# Altium schematic symbol library BB.001.00.00.SchLib: 36 symbols
Pins are listed as number, name and electrical type; pins without a type are passive.

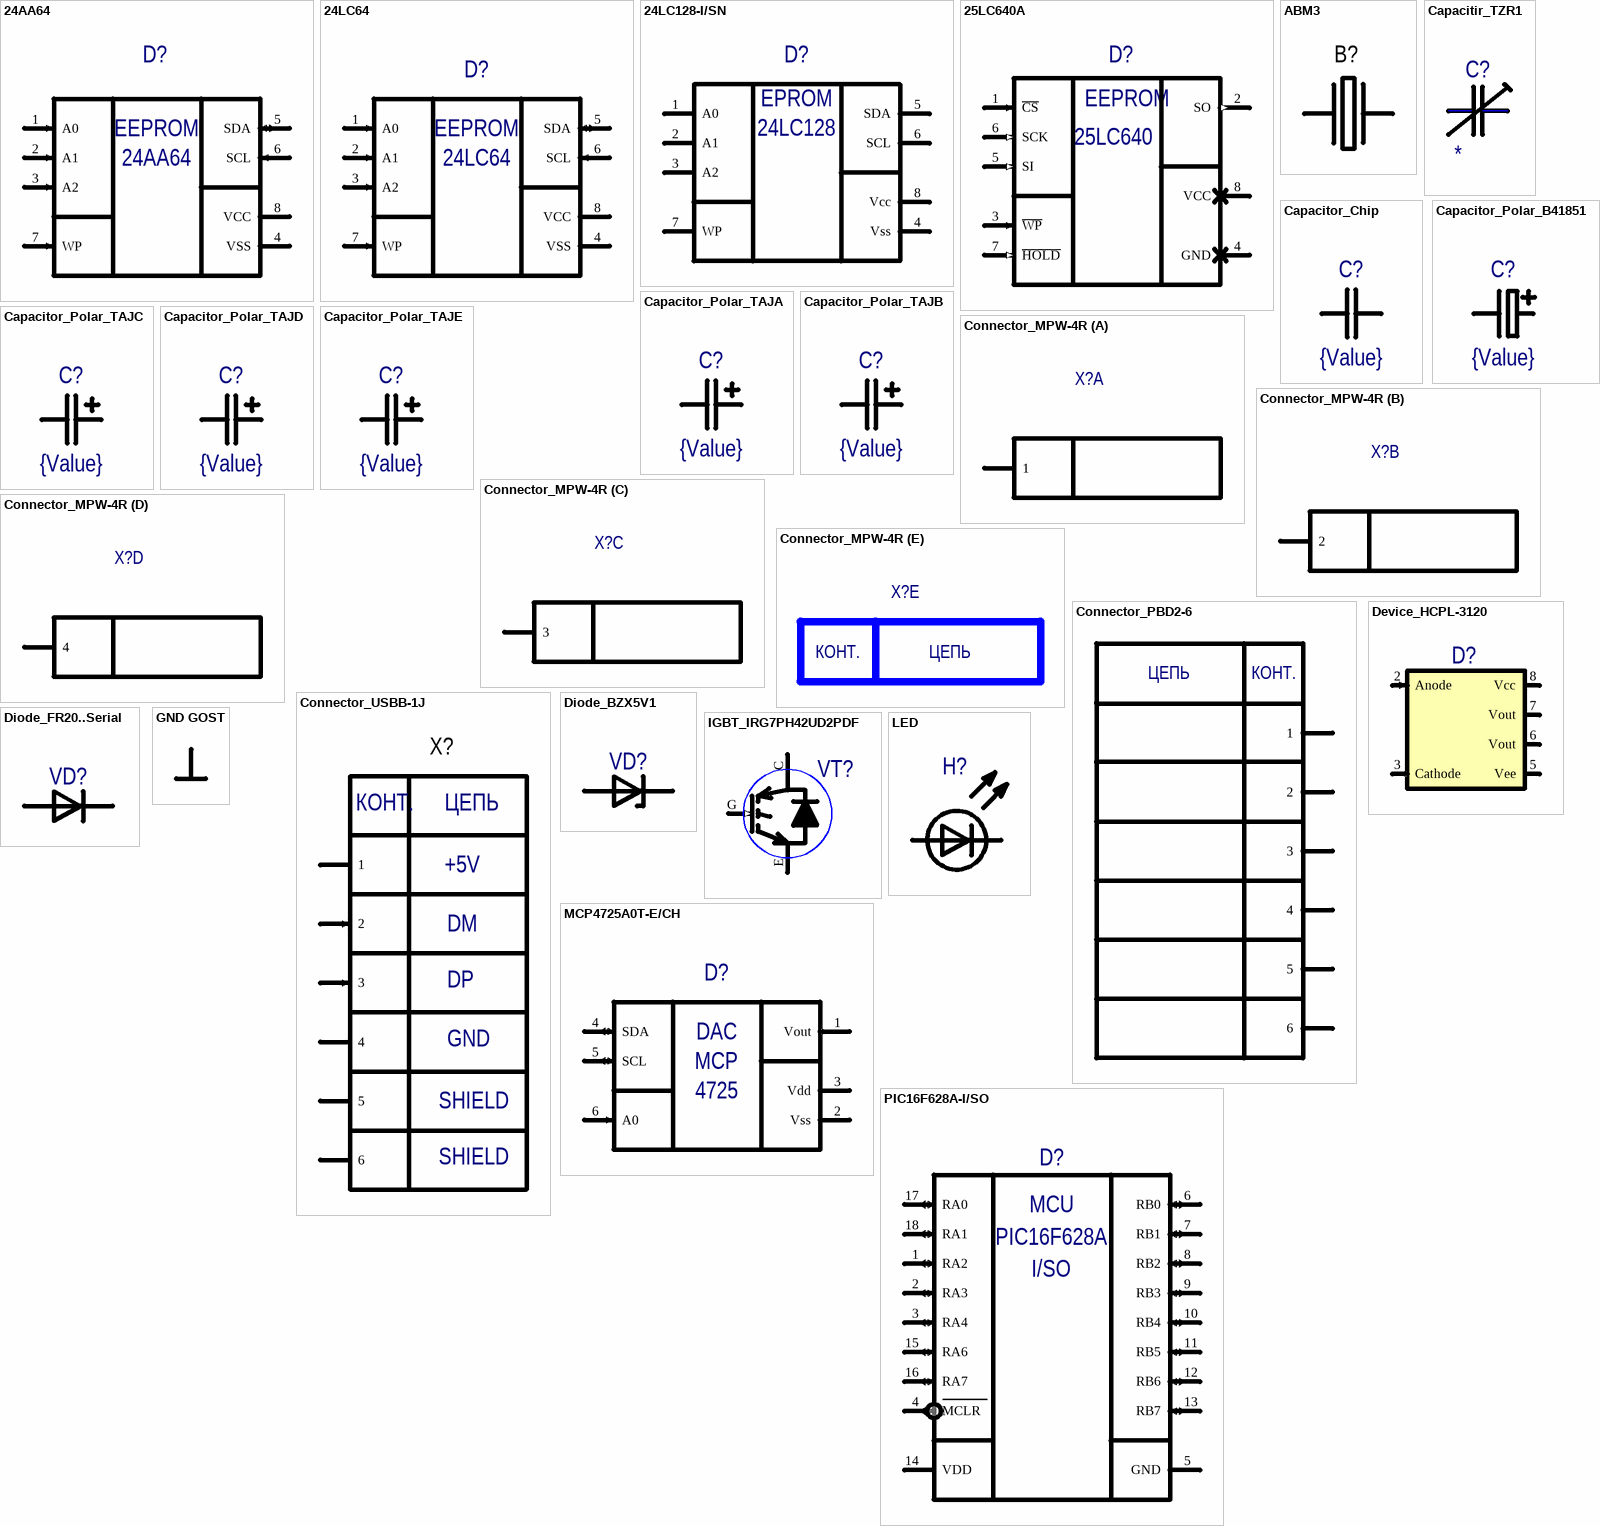
[diagram p0: symbols 24AA64 to PIC16F628A-I/SO]

## 24AA64
designator D?, comment 24AA64-I/SN  (value not drawn)
64K I2C™ Serial EEPROM; Manufacturer: Microchip; Type: Микросхема; BCPId: *; ManufacturerPartNumber: 24AA64-I/SN; TU/GOST: *; Rem: *; Package: SN
footprint SOIC127P600-8M (SOIC, 8-Leads, Body 4.9x3.9mm, Pitch 1.27mm, IPC Low Density)
pins: 1 A0 (in) "Chip address input", 2 A1 (in) "Chip address input", 3 A2 (in) "Chip address input", 4 VSS (power) "Ground", 5 SDA (io) "Serial Address/Data I/O", 6 SCL (in) "Serial Clock", 7 WP (in) "Write protection pin", 8 VCC "+2.5-5.5V power pin"
text: EEPROM

## 24LC64
designator D?, comment 24LC64-I/SN  (value not drawn)
64 I2C serial EEPROM; Manufacturer: Microchip; Type: Микросхема; BCPId: *; Name: *; Package: SN; ManufacturerPartNumber: 24LC64-I/SN
footprint SOIC127P600-8M (SOIC, 8-Leads, Body 4.9x3.9mm, Pitch 1.27mm, IPC Low Density)
pins: 1 A0 (in) "Chip address input", 2 A1 (in) "Chip address input", 3 A2 (in) "Chip address input", 4 VSS (power) "Ground", 5 SDA (io) "Serial Address/Data I/O", 6 SCL (in) "Serial Clock", 7 WP (in) "Write protection pin", 8 VCC "+2.5-5.5V power pin"
text: EEPROM

## 24LC128-I/SN
designator D?  (value not drawn)
EEPROM память с последовательным интерфейсом; Manufacturer: Microchip; Type: Микросхема; SymAuthor: Семенов В.С.; BCPId: *; ManufacturerPartNumber: 24LC128-I/SN; Package: 8-Lead SOIC
footprint SOIC127P600-8M (SOIC, 8-Leads, Body 4.9x3.9mm, Pitch 1.27mm, IPC Low Density)
pins: 1 A0 "0 бит адреса микросхемы", 2 A1 "1 бит адреса микросхемы", 3 A2 "2 бит адреса микросхемы", 4 Vss "Земля", 5 SDA "Serial Data", 6 SCL "Serial Clock", 7 WP "Защита от записи", 8 Vсс
text: EPROM; 24LC128

## 25LC640A
designator D?, comment 25LC640AT-I/SN  (value not drawn)
EEPROM 64Kbit; Manufacturer*: Microchip Technology; Type: Микросхема; BCPId: *; ManufacturerPartNumber: 25LC640AT-I/SN; Package: 8 pin SOIC
footprint SOIC127P600-8M (SOIC, 8-Leads, Body 4.9x3.9mm, Pitch 1.27mm, IPC Low Density)
pins: 1 ~{CS} (in), 2 SO (out), 3 ~{WP} (in), 4 GND (power), 5 SI (in), 6 SCK (in), 7 ~{HOLD} (in), 8 VCC (power)
text: EEPROM; 25LC640

## ABM3
designator B?, comment ABM3-25 МHz-D2Y  (value not drawn)
Резонатор кварцевый; Manufacturer*: Abracon; Value: 25МГц; BCPId: *; Type: Резонатор кварцевый; ManufacturerPartNumber: ABM3-25 МHz-D2Y
footprint OSC_ABM3 (MINIATURE CERAMIC SMD CRYSTAL 3.2x5x1.3)
pins: 1, 2

## Capacitir_TZR1
designator C?
Ceramic Trimmer Capacitor; Manufacturer: MURATA; ManufacturerPartNumber: TZR1*; Power/Voltage: 25 В; Type: Конденсатор; BCPId: *; TKE/TKC: *; Tolerance: *; Value: *; TU/GOST: *
footprint CAPM1715X09N (Molded Capacitor, 2-Leads, Body 1,70x1,50mm, IPC Medium Density)
pins: 1, 2

## Capacitor_Chip
designator C?, comment {Value}
Чип-конденсатор; Name: 1206; Power/Voltage: {Voltage}; TKE/TKC: {TKE/TKC}; Tolerance: {Tolerance}; BCPId: *; Manufacturer: *; ManufacturerPartNumber: *; Type: Конденсатор; Value: {Value}
footprint CAPC0303X03N (Chip Capacitor, 2-Leads, Body 0,35x0,35mm, IPC Medium Density)
footprint CAPC1005L (Chip Capacitor, Body 1.0x0.5mm, IPC High Density)
footprint CAPC1005M (Chip Capacitor, Body 1.0x0.5mm, IPC Low Density)
footprint CAPC1005N (Chip Capacitor, Body 1.0x0.5mm, IPC Medium Density)
footprint CAPC1305X06L (Chip Capacitor, 2-Leads, Body 1,30x0,51mm, IPC High Density)
footprint CAPC1306N (Chip Capacitor, 2-Leads, Body 1,27x0,64mm, IPC Medium Density)
footprint CAPC1608L (Chip Capacitor, Body 1.6x0.8mm, IPC High Density)
footprint CAPC1608M (Chip Capacitor, Body 1.6x0.8mm, IPC Low Density)
footprint CAPC1608N (Chip Capacitor, Body 1.6x0.8mm, IPC Medium Density)
footprint CAPC1632X115L (Chip Capacitor, 2-Leads, Body 1,6x3,2mm, IPC High Density)
footprint CAPC1632X115M (Chip Capacitor, 2-Leads, Body 1,6x3,2mm, IPC Low Density)
footprint CAPC1632X115N (Chip Capacitor, 2-Leads, Body 1,6x3,2mm, IPC Medium Density)
footprint CAPC2012L (Chip Capacitor, Body 2.0x1.3mm, IPC High Density)
footprint CAPC2012M (Chip Capacitor, Body 2.0x1.3mm, IPC Low Density)
footprint CAPC2012N (Chip Capacitor, Body 2.0x1.3mm, IPC Medium Density)
footprint CAPC3216L (Chip Capacitor, Body 3.2x1.6mm, IPC High Density)
footprint CAPC3216M (Chip Capacitor, Body 3.2x1.6mm, IPC Low Density)
footprint CAPC3216N (Chip Capacitor, Body 3.2x1.6mm, IPC Medium Density)
footprint CAPC3225L (Chip Capacitor, Body 3.2x2.5mm, IPC High Density)
footprint CAPC3225M (Chip Capacitor, Body 3.2x2.5mm, IPC Low Density)
footprint CAPC3225N (Chip Capacitor, Body 3.2x2.5mm, IPC Medium Density)
footprint CAPC3225X20N (Chip Capacitor, 2-Leads, Body 3,20x2,50mm, IPC Medium Density)
footprint CAPC4532L (Chip Capacitor, Body 4.5x3.2mm, IPC High Density)
footprint CAPC4532M (Chip Capacitor, Body 4.5x3.2mm, IPC Low Density)
footprint CAPC4532N (Chip Capacitor, Body 4.5x3.2mm, IPC Medium Density)
footprint CAPC5750X19N (Chip Capacitor, 2-Leads, Body 5,70x5,00mm, IPC Medium Density)
footprint CAPC5750X25N (Chip Capacitor, 2-Leads, Body 5,70x5,00mm, IPC Medium Density)
pins: 1, 2

## Capacitor_Polar_B41851
designator C?, comment {Value}
Конденсатор радиальный,; Manufacturer: Epсos; Name: B41851; Power/Voltage: {Voltage}; Tolerance: {Tolerance}; BCPId: *; TKE/TKC: *; ManufacturerPartNumber: *; Type: Конденсатор; Value: {Value}
footprint TC3216-1206 (Capacitor, SM Tantalum; Body 3.2 x 1.6 mm (LxW typ))
pins: 1, 2

## Capacitor_Polar_TAJA
designator C?, comment {Value}
Танталовый конденсатор; Name: TAJA; Power/Voltage: {Voltage}; Tolerance: {Tolerance}; BCPId: *; Manufacturer: *; TKE/TKC: *; ManufacturerPartNumber: *; Type: Конденсатор; Value: {Value}
footprint TC3216-1206 (Capacitor, SM Tantalum; Body 3.2 x 1.6 mm (LxW typ))
pins: 1, 2

## Capacitor_Polar_TAJB
designator C?, comment {Value}
Танталовый конденсатор; Name: TAJB; Power/Voltage: {Voltage}; Tolerance: {Tolerance}; BCPId: *; Manufacturer: *; TKE/TKC: *; ManufacturerPartNumber: *; Type: Конденсатор; Value: {Value}
footprint TC3528-1411 (Capacitor, SM Tantalum; Body 3.5 x 2.8 mm (LxW typ))
pins: 1, 2

## Capacitor_Polar_TAJC
designator C?, comment {Value}
Танталовый конденсатор; Name: TAJC; Power/Voltage: {Voltage}; Tolerance: {Tolerance}; BCPId: *; Manufacturer: *; TKE/TKC: *; ManufacturerPartNumber: *; Type: Конденсатор; Value: {Value}
footprint TC6032-2412 (Capacitor, SM Tantalum; Body 6.0 x 3.2 mm (LxW typ))
pins: 1, 2

## Capacitor_Polar_TAJD
designator C?, comment {Value}
Танталовый конденсатор; Name: TAJD; Power/Voltage: {Voltage}; Tolerance: {Tolerance}; BCPId: *; Manufacturer: *; TKE/TKC: *; ManufacturerPartNumber: *; Type: Конденсатор; Value: {Value}
footprint CAPMP7343X31N (Molded Capacitor, 2-Leads, Body 7,30x4,30mm, IPC Medium Density)
pins: 1, 2

## Capacitor_Polar_TAJE
designator C?, comment {Value}
Танталовый конденсатор; Name: TAJE; Power/Voltage: {Voltage}; Tolerance: {Tolerance}; BCPId: *; Manufacturer: *; TKE/TKC: *; ManufacturerPartNumber: *; Type: Конденсатор; Value: {Value}
footprint TC7343-2917 (Capacitor, SM Tantalum; Body 7.3 x 4.3 mm (LxW typ))
pins: 1, 2

## Connector_MPW-4R
designator X?, comment MPW-4R  (value not drawn)
Value: *
footprint CONH MPW-4R
part A pins: 1
part B pins: 2
part C pins: 3
part D pins: 4
part E text: КОНТ.; ЦЕПЬ

## Connector_PBD2-6
designator X?  (value not drawn)
Гнездо на плату шаг 2.00мм., двухрядные; Manufacturer: Бурый медведь; ManufacturerPartNumber: PBD2-6; BCPId: *; Type: Розетка
footprint PBD2-6 (Гнезда на плату,  шаг 2.00мм., двухрядные,  прямые контакты)
pins: 1, 2, 3, 4, 5, 6
text: ЦЕПЬ; КОНТ.

## Connector_USBB-1J
designator X?, comment USBB-1J  (value not drawn)
Разъем USBB на плату; Manufacturer*: NXU; BCPId: *; Type: Розетка; ManufacturerPartNumber: USBB-1J
footprint USBB-1J (USB B type R\A dip type)
pins: 1 (power), 2 (in), 3 (in), 4 (power), 5 (power), 6 (power)
text: КОНТ.; ЦЕПЬ; +5V; DM; DP; GND; SHIELD

## Device_HCPL-3120
designator D?, comment МикросхемаHCPL-3120  (value not drawn)
2.5 Amp Output Current IGBT Gate Drive Optocoupler; Manufacturer: Avago, Avago Technologies; Rule: PcbType=ProtelPcb; ManufacturerPartNumber: HCPL-3120; BCPId: *; ComponentLink2Description: Package; Category: Микросхема; ComponentLink1URL: k:\Projects\BB.001.00.00 (Преобразователь частотный)\Datashets\Функциональная группа ''A1''\hcpl-3120-500e.pdf; ComponentLink1Description: DataSheet; ComponentLink2URL: k:\Projects\BB.001.00.00 (Преобразователь частотный)\Datashets\Функциональная группа ''A1''\hcpl-3120-500e.pdf#page=3
footprint DIP-8
pins: 2 Anode (in), 3 Cathode (out), 5 Vee (power), 6 Vout (power) "Vo", 7 Vout (power), 8 Vcc (power)

## Diode_BZX5V1
designator VD?, comment BZX5V1  (value not drawn)
Диод; Manufacturer: WTE power Semiconductor; BCPId: *; Rem: *; Package: *; ManufacturerPartNumber: BZX5V1; Type: Диод; TU/GOST: *; HelpURL: *; Price: *
footprint DO-35
pins: 1 Anode, 2 Cathode

## Diode_FR20..Serial
designator VD?, comment FR20  (value not drawn)
Диод; Manufacturer: WTE power Semiconductor; BCPId: *; Rem: *; Package: *; ManufacturerPartNumber: FR20; Type: Диод; TU/GOST: *; HelpURL: *; Price: *
footprint DO-15
pins: 1 Anode, 2 Cathode

## EMBLEM
designator *  (value not drawn)  (mechanical)
Эмблема предприятия
footprint EMBLEM

## GND GOST
designator GND  (value not drawn)  (graphical)
Корпус ЕСКД. Для "наложения" на штатный GOST Power Bar

## IGBT_IRG7PH42UD2PDF
designator VT?  (value not drawn)
insulated gate bipolar transistor with  ultrafast soft recovery diode; ManufacturerPartNumber: IRG7PH42UD2PDF; BCPId: *; Manufacturer: *; Package: TO-247AC
footprint TO-247AC
pins: C (oc) "Collector", E (oe) "Emitter", G (in) "Gate"

## LED
designator H?, comment KPG-1608ZGC  (value not drawn)
Светодиод; Manufacturer: Kingbright; BCPId: *; Rem: *; Package: *; ManufacturerPartNumber: KPG-1608ZGC; Type: Светодиод; TU/GOST: *; HelpURL: *; Price: *
footprint LED_1608X25N (Chip LED lamp, 2-Leads, Body 1,60x0,80mm, IPC Medium Density)
pins: 1 Anode, 2 Cathode

## MCP4725A0T-E/CH
designator D?  (value not drawn)
12-Bit DAC with EEPROM; Manufacturer: Microchip; Type: Микросхема; BCPId: *; Name: *; Package: SOT-23-6; ManufacturerPartNumber: MCP4725A0T-E/CH
footprint SOT95P270X145-6N (SOT23, 6-Leads, Body 2,90x2,70mm, Pitch 0,95mm, IPC Medium Density)
pins: 1 Vout (out) "Analog Output Voltage from DAC", 2 Vss (power) "Ground", 3 Vdd (power) "Power Supply Input from 2.7 V to 5.5 V", 4 SDA (io) "Serial Data Pin", 5 SCL (io) "Serial Clock Pin", 6 A0 (in) "Device Address Selection Pin"
text: DAC; MCP; 4725

## PIC16F628A-I/SO
designator D?  (value not drawn)
Flash based 8-bit CMOS Microcontroller; Manufacturer: Microchip Technology; Type: Микросхема; SymAuthor: Календарова В.; BCPId: *; Name: *; Package: SO-18; ManufacturerPartNumber: PIC16F628A-I/SO
footprint SOIC127P1030X265-18N (SOIC, 18-Leads, Body 11,55x7,50mm, Pitch 1,27mm, IPC Medium Density)
pins: 1 RA2 (io) "Bidirectional I/O port", 2 RA3 (io) "Bidirectional I/O port", 3 RA4 (io) "Bidirectional I/O port", 4 MCLR (io) "Master clean", 5 GND (power) "Ground", 6 RB0 (io) "Bidirectional I/O port", 7 RB1 (io) "Bidirectional I/O port", 8 RB2 (io) "Bidirectional I/O port", 9 RB3 (io) "Bidirectional I/O port", 10 RB4 (io) "Bidirectional I/O port", 11 RB5 (io) "Bidirectional I/O port", 12 RB6 (io) "Bidirectional I/O port", 13 RB7 (io) "Bidirectional I/O port", 14 VDD (power), 15 RA6 (io) "Bidirectional I/O port", 16 RA7 (io) "Bidirectional I/O port", 17 RA0 (io) "Bidirectional I/O port", 18 RA1 (io) "Bidirectional I/O port"
text: MCU; PIC16F628A; I/SO

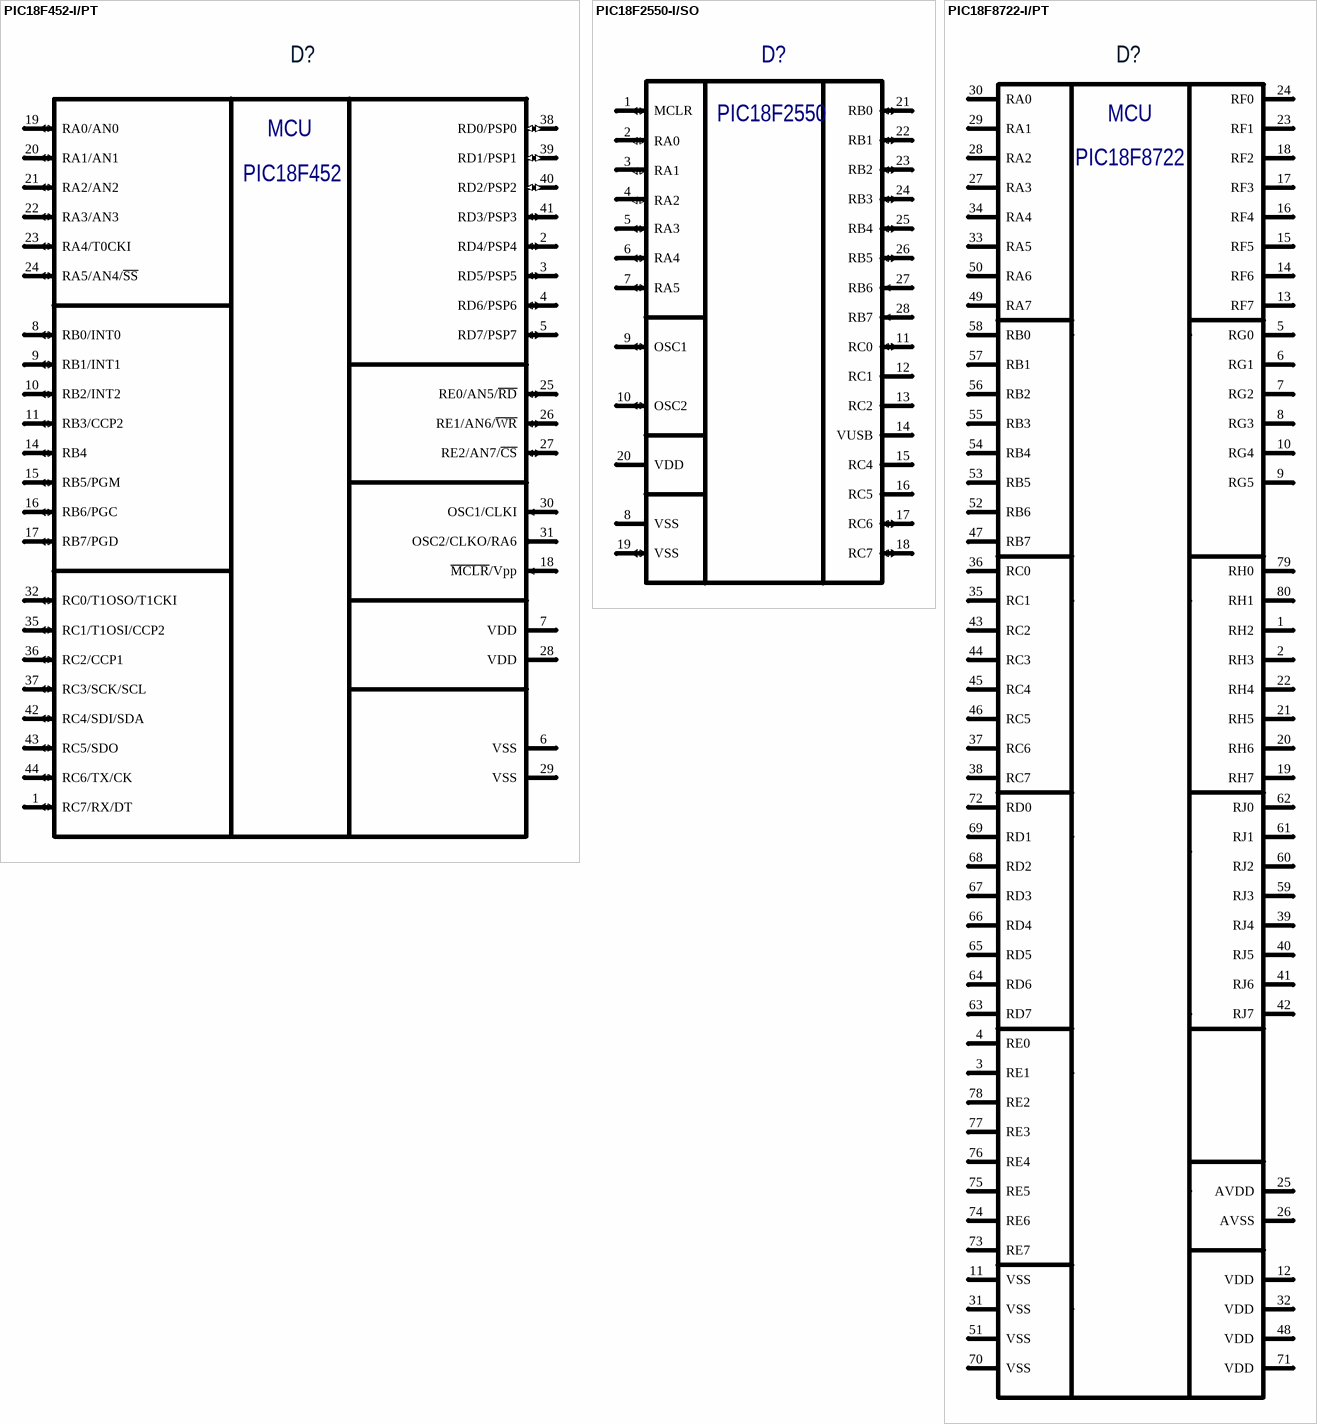
[diagram p1: symbols PIC18F452-I/PT to PIC18F8722-I/PT]

## PIC18F452-I/PT
designator D?  (value not drawn)
High-Performance, Enhanced Flash  Microcontrollers with 10-Bit A/D; Manufacturer: Microchip; Type: Микросхема; Name: *; BCPId: *; Package: TQFP; ManufacturerPartNumber: PIC18F452-I/PT
footprint TQFP80P1200X1200X120-44N (TQFP, 44-Leads, Body 10,00x10,00mm, Pitch 0,80mm, IPC Medium Density)
pins: 1 RC7/RX/DT (io), 2 RD4/PSP4 (io), 3 RD5/PSP5 (io), 4 RD6/PSP6 (io), 5 RD7/PSP7 (io), 6 VSS (power) "GND", 7 VDD (power), 8 RB0/INT0 (io), 9 RB1/INT1 (io), 10 RB2/INT2 (io), 11 RB3/CCP2 (io), 12 NC hidden, 13 NC hidden, 14 RB4 (io), 15 RB5/PGM (io), 16 RB6/PGC (io), 17 RB7/PGD (io), 18 ~{MCLR}/Vpp (in) "MCLR/Vpp", 19 RA0/AN0 (io), 20 RA1/AN1 (io), 21 RA2/AN2 (io), 22 RA3/AN3 (io), 23 RA4/T0CKI (io), 24 RA5/AN4/~{SS} (io) "RA5/AN4/SS", 25 RE0/AN5/~{RD} (io) "RE0/AN5/RD", 26 RE1/AN6/~{WR} (io) "RE1/AN6/WR", 27 RE2/AN7/~{CS} (io) "RE2/AN7/CS", 28 VDD (power), 29 VSS (power) "GND", 30 OSC1/CLKI (in), 31 OSC2/CLKO/RA6 (out), 32 RC0/T1OSO/T1CKI (io), 33 NC hidden, 34 NC hidden, 35 RC1/T1OSI/CCP2 (io), 36 RC2/CCP1 (io), 37 RC3/SCK/SCL (io), 38 RD0/PSP0 (io), 39 RD1/PSP1 (io), 40 RD2/PSP2 (io), 41 RD3/PSP3 (io), 42 RC4/SDI/SDA (io), 43 RC5/SDO (io), 44 RC6/TX/CK (io)
text: MCU; PIC18F452

## PIC18F2550-I/SO
designator D?  (value not drawn)
USB Microcontrollers with nanoWatt Technology; Manufacturer*: Microchip; Type: микросхема; BCPId: *; ManufacturerPartNumber: PIC18F2550-I/SO
footprint SOIC127P1030X264-28N (SOIC, 28-Leads, Body 17,86x7,46mm, Pitch 1,27mm, IPC Medium Density)
pins: 1 MCLR (io), 2 RA0 (io), 3 RA1 (io), 4 RA2 (io), 5 RA3 (io), 6 RA4 (io), 7 RA5 (io), 8 VSS (power), 9 OSC1 (io), 10 OSC2 (io), 11 RC0 (io), 12 RC1 (power), 13 RC2 (power), 14 VUSB (power), 15 RC4, 16 RC5 (power), 17 RC6 (io), 18 RC7 (io), 19 VSS (io), 20 VDD (power), 21 RB0 (io), 22 RB1 (io), 23 RB2 (io), 24 RB3 (io), 25 RB4 (io), 26 RB5 (io), 27 RB6 (in), 28 RB7 (in)
text: PIC18F2550

## PIC18F8722-I/PT
designator D?  (value not drawn)
80-Pin, 1-Mbit,  Enhanced Flash Microcontrollers  with 10-Bit A/D and nanoWatt Technology; Manufacturer: Microchip; Type: Микросхема; Name: *; BCPId: *; Package: 80-Pin TQFP; ManufacturerPartNumber: PIC18F8722-I/PT
footprint QFP50P1400X1400X120-80N (QFP, 80-Leads, Body 14,00x14,00mm, Pitch 0,50mm, IPC Medium Density)
pins: 1 RH2, 2 RH3, 3 RE1, 4 RE0, 5 RG0, 6 RG1, 7 RG2, 8 RG3, 9 RG5, 10 RG4, 11 VSS, 12 VDD, 13 RF7, 14 RF6, 15 RF5, 16 RF4, 17 RF3, 18 RF2, 19 RH7, 20 RH6, 21 RH5, 22 RH4, 23 RF1, 24 RF0, 25 AVDD, 26 AVSS, 27 RA3, 28 RA2, 29 RA1, 30 RA0, 31 VSS, 32 VDD, 33 RA5, 34 RA4, 35 RC1, 36 RC0, 37 RC6, 38 RC7, 39 RJ4, 40 RJ5, 41 RJ6, 42 RJ7, 43 RC2, 44 RC3, 45 RC4, 46 RC5, 47 RB7, 48 VDD, 49 RA7, 50 RA6, 51 VSS, 52 RB6, 53 RB5, 54 RB4, 55 RB3, 56 RB2, 57 RB1, 58 RB0, 59 RJ3, 60 RJ2, 61 RJ1, 62 RJ0, 63 RD7, 64 RD6, 65 RD5, 66 RD4, 67 RD3, 68 RD2, 69 RD1, 70 VSS, 71 VDD, 72 RD0, 73 RE7, 74 RE6, 75 RE5, 76 RE4, 77 RE3, 78 RE2, 79 RH0, 80 RH1
text: MCU; PIC18F8722

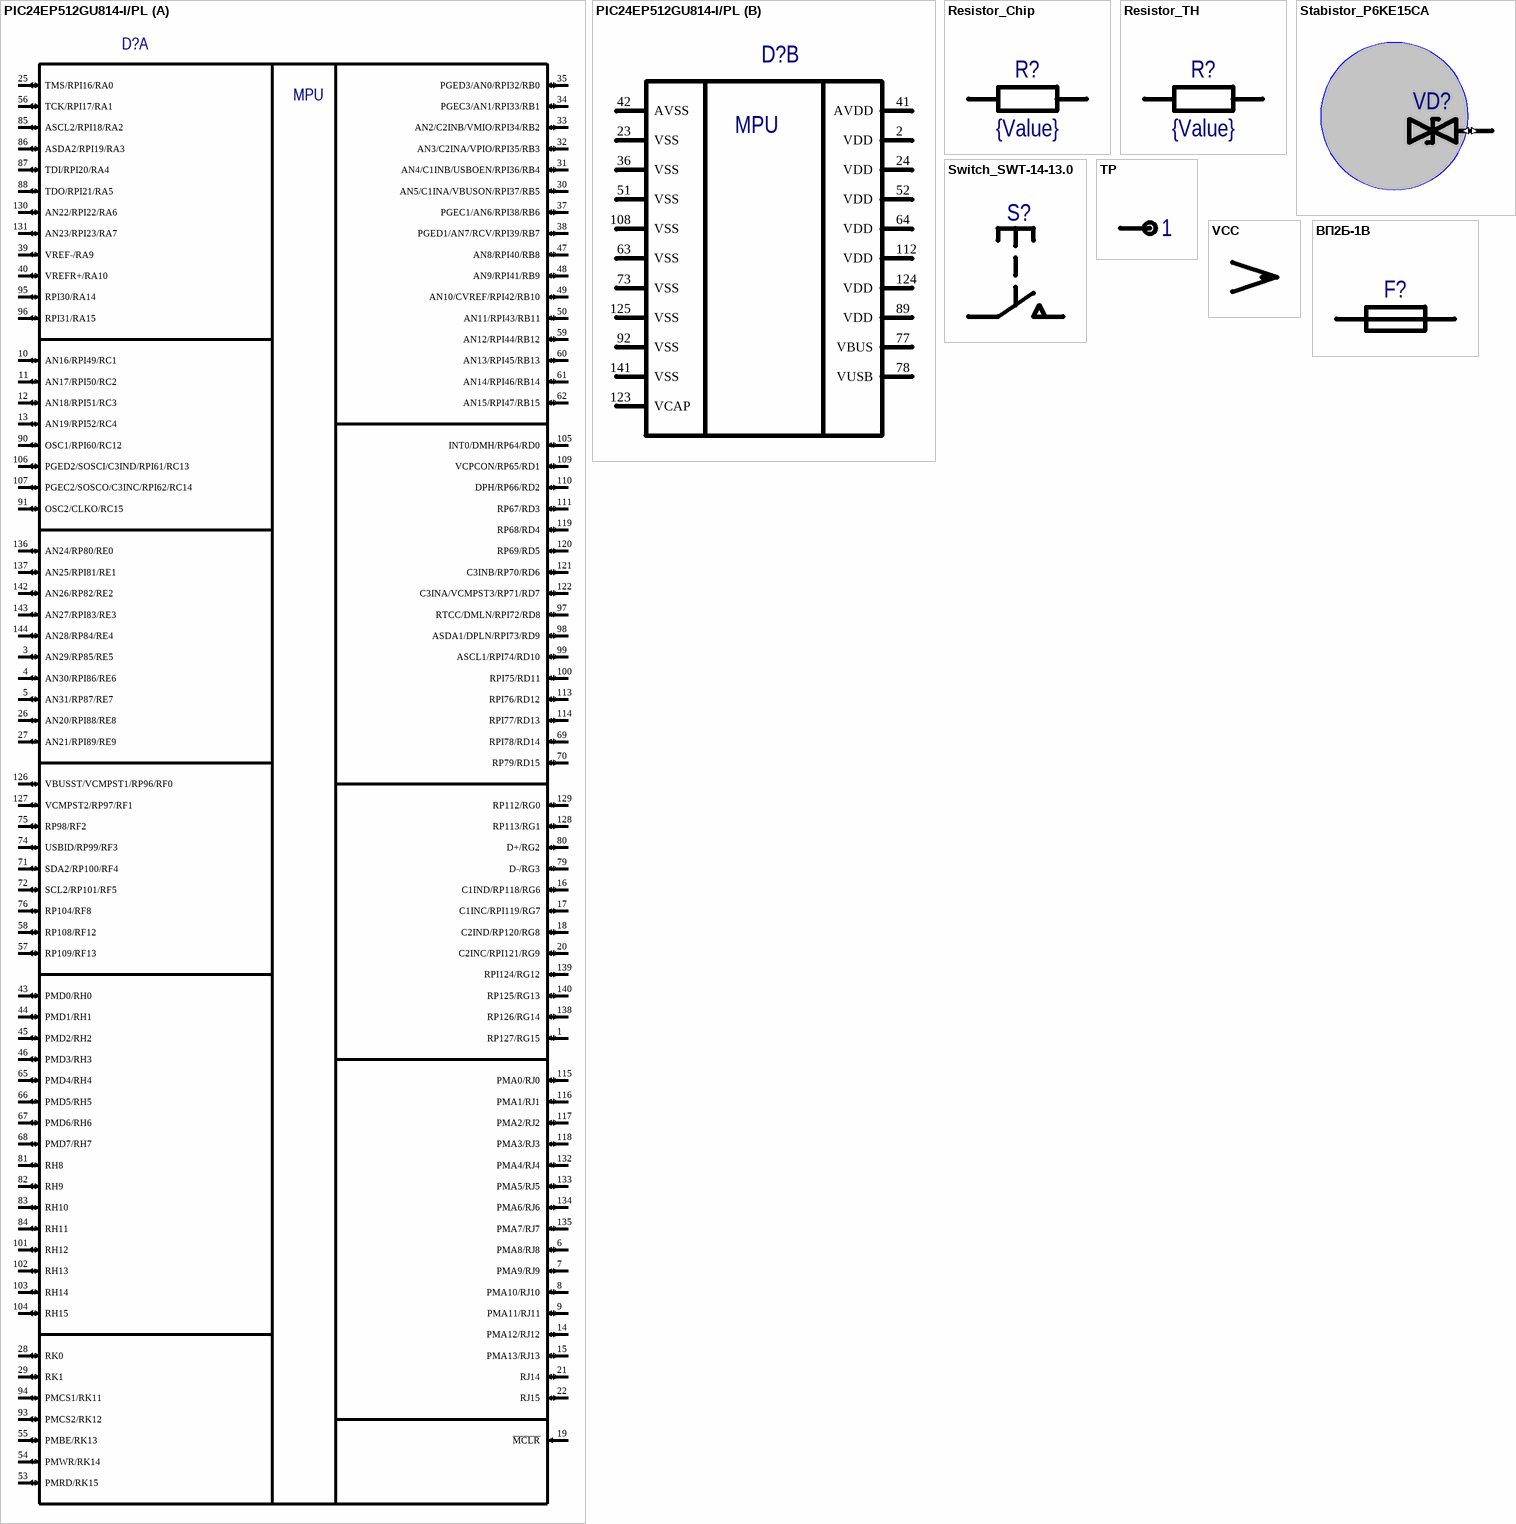
[diagram p2: symbols PIC24EP512GU814-I/PL to ВП2Б-1В]

## PIC24EP512GU814-I/PL
designator D?  (value not drawn)
Microcontroller 122 user i/o,USB, 2uart; Manufacturer*: Microchip; Type: Микросхема; BCPId: *; ManufacturerPartNumber: PIC24EP512GU814-I/PL; Package: 144-Pin LQFP
footprint QFP50P2000X2000X150-144N (Package: TQFP,L; body: 20x20x1,6mm)
part A pins: 1 RP127/RG15 (io), 3 AN29/RP85/RE5 (io), 4 AN30/RPI86/RE6 (io), 5 AN31/RP87/RE7 (io), 6 PMA8/RJ8 (io), 7 PMA9/RJ9 (io), 8 PMA10/RJ10 (io), 9 PMA11/RJ11 (io), 10 AN16/RPI49/RC1 (io), 11 AN17/RPI50/RC2 (io), 12 AN18/RPI51/RC3 (io), 13 AN19/RPI52/RC4 (io), 14 PMA12/RJ12 (io), 15 PMA13/RJ13 (io), 16 C1IND/RP118/RG6 (io), 17 C1INC/RPI119/RG7 (io), 18 C2IND/RP120/RG8 (io), 19 ~{MCLR} (in), 20 C2INC/RPI121/RG9 (io), 21 RJ14 (io), 22 RJ15 (io), 25 TMS/RPI16/RA0 (io), 26 AN20/RPI88/RE8 (io), 27 AN21/RPI89/RE9 (io), 28 RK0 (io), 29 RK1 (io), 30 AN5/C1INA/VBUSON/RPI37/RB5 (io), 31 AN4/C1INB/USBOEN/RPI36/RB4 (io), 32 AN3/C2INA/VPIO/RPI35/RB3 (io), 33 AN2/C2INB/VMIO/RPI34/RB2 (io), 34 PGEC3/AN1/RPI33/RB1 (io), 35 PGED3/AN0/RPI32/RB0 (io), 37 PGEC1/AN6/RPI38/RB6 (io), 38 PGED1/AN7/RCV/RPI39/RB7 (io), 39 VREF-/RA9 (io), 40 VREFR+/RA10 (io), 43 PMD0/RH0 (io), 44 PMD1/RH1 (io), 45 PMD2/RH2 (io), 46 PMD3/RH3 (io), 47 AN8/RPI40/RB8 (io), 48 AN9/RPI41/RB9 (io), 49 AN10/CVREF/RPI42/RB10 (io), 50 AN11/RPI43/RB11 (io), 53 PMRD/RK15 (io), 54 PMWR/RK14 (io), 55 PMBE/RK13 (io), 56 TCK/RPI17/RA1 (io), 57 RP109/RF13 (io), 58 RP108/RF12 (io), 59 AN12/RPI44/RB12 (io), 60 AN13/RPI45/RB13 (io), 61 AN14/RPI46/RB14 (io), 62 AN15/RPI47/RB15 (io), 65 PMD4/RH4 (io), 66 PMD5/RH5 (io), 67 PMD6/RH6 (io), 68 PMD7/RH7 (io), 69 RPI78/RD14 (io), 70 RP79/RD15 (io), 71 SDA2/RP100/RF4 (io), 72 SCL2/RP101/RF5 (io), 74 USBID/RP99/RF3 (io), 75 RP98/RF2 (io), 76 RP104/RF8 (io), 79 D-/RG3 (io), 80 D+/RG2 (io), 81 RH8 (io), 82 RH9 (io), 83 RH10 (io), 84 RH11 (io), 85 ASCL2/RPI18/RA2 (io), 86 ASDA2/RPI19/RA3 (io), 87 TDI/RPI20/RA4 (io), 88 TDO/RPI21/RA5 (io), 90 OSC1/RPI60/RC12 (io), 91 OSC2/CLKO/RC15 (io), 93 PMCS2/RK12 (io), 94 PMCS1/RK11 (io), 95 RPI30/RA14 (io), 96 RPI31/RA15 (io), 97 RTCC/DMLN/RPI72/RD8 (io), 98 ASDA1/DPLN/RPI73/RD9 (io), 99 ASCL1/RPI74/RD10 (io), 100 RPI75/RD11 (io), 101 RH12 (io), 102 RH13 (io), 103 RH14 (io), 104 RH15 (io), 105 INT0/DMH/RP64/RD0 (io), 106 PGED2/SOSCI/C3IND/RPI61/RC13 (io), 107 PGEC2/SOSCO/C3INC/RPI62/RC14 (io), 109 VCPCON/RP65/RD1 (io), 110 DPH/RP66/RD2 (io), 111 RP67/RD3 (io), 113 RPI76/RD12 (io), 114 RPI77/RD13 (io), 115 PMA0/RJ0 (io), 116 PMA1/RJ1 (io), 117 PMA2/RJ2 (io), 118 PMA3/RJ3 (io), 119 RP68/RD4 (io), 120 RP69/RD5 (io), 121 C3INB/RP70/RD6 (io), 122 C3INA/VCMPST3/RP71/RD7 (io), 126 VBUSST/VCMPST1/RP96/RF0 (io), 127 VCMPST2/RP97/RF1 (io), 128 RP113/RG1 (io), 129 RP112/RG0 (io), 130 AN22/RPI22/RA6 (io), 131 AN23/RPI23/RA7 (io), 132 PMA4/RJ4 (io), 133 PMA5/RJ5 (io), 134 PMA6/RJ6 (io), 135 PMA7/RJ7 (io), 136 AN24/RP80/RE0 (io), 137 AN25/RPI81/RE1 (io), 138 RP126/RG14 (io), 139 RPI124/RG12 (io), 140 RP125/RG13 (io), 142 AN26/RP82/RE2 (io), 143 AN27/RPI83/RE3 (io), 144 AN28/RP84/RE4 (io)
part B pins: 2 VDD (power), 23 VSS (power), 24 VDD (power), 36 VSS (power), 41 AVDD (power), 42 AVSS (power), 51 VSS (power), 52 VDD (power), 63 VSS (power), 64 VDD (power), 73 VSS (power), 77 VBUS (power), 78 VUSB (power), 89 VDD (power), 92 VSS (power), 108 VSS (power), 112 VDD (power), 123 VCAP (power), 124 VDD (power), 125 VSS (power), 141 VSS (power)
part A text: MPU
part B text: MPU

## Resistor_Chip
designator R?, comment {Value}
Чип-резистор; Tolerance: {Tolerance}; BCPId: *; Manufacturer: *; Name: *; Type: Резистор; Value: {Value}
footprint RESC10050X80N (SMD; Body:10,2Х5,2Х0,8mm; Чип-резистор)
footprint RESC6432N (Chip Resistor, Body 6.4x3.2mm, IPC Medium Density)
footprint RESC6432M (Chip Resistor, Body 6.4x3.2mm, IPC Low Density)
footprint RESC6432L (Chip Resistor, Body 6.4x3.2mm, IPC High Density)
footprint RESC5025X80N (SMD; Body:50,25Х2,54Х0,8mm; Чип-резистор)
footprint RESC5025X80M (SMD; Body:50,25Х2,54Х0,8mm; Чип-резистор)
footprint RESC5025X80L (SMD; Body:50,25Х2,54Х0,8mm; Чип-резистор)
footprint RESC4532N (Chip Resistor, Body 4.5x3.2mm, IPC Medium Density)
footprint RESC3246 (Chip Resistor, 2-Leads, Body 3,2x4,6mm, IPC Medium Density)
footprint RESC1005L (Chip Resistor, Body 1.1x0.5mm, IPC High Density)
footprint RESC1005M (Chip Resistor, Body 1.1x0.5mm, IPC Low Density)
footprint RESC1005N (Chip Resistor, Body 1.1x0.5mm, IPC Medium Density)
footprint RESC1210X110N (SMD, Body: 120x100x110; Резистор высокочастотный неизолированный безвыводной)
footprint RESC1608L (Chip Resistor, Body 1.6x0.8mm, IPC High Density)
footprint RESC1608M (Chip Resistor, Body 1.6x0.8mm, IPC Low Density)
footprint RESC1608N (Chip Resistor, Body 1.6x0.8mm, IPC Medium Density)
footprint RESC2012L (Chip Resistor, Body 2.0x1.3mm, IPC High Density)
footprint RESC2012M (Chip Resistor, Body 2.0x1.3mm, IPC Low Density)
footprint RESC2012N (Chip Resistor, Body 2.0x1.3mm, IPC Medium Density)
footprint RESC3216L (Chip Resistor, Body 3.2x1.6mm, IPC High Density)
footprint RESC3216M (Chip Resistor, Body 3.2x1.6mm, IPC Low Density)
footprint RESC3216N (Chip Resistor, Body 3.2x1.6mm, IPC Medium Density)
footprint RESC3225L (Chip Resistor, Body 3.2x2.5mm, IPC High Density)
footprint RESC3225M (Chip Resistor, Body 3.2x2.5mm, IPC Low Density)
footprint RESC3225N (Chip Resistor, Body 3.2x2.5mm, IPC Medium Density)
pins: 1, 2

## Resistor_TH
designator R?, comment {Value}
Резистор; Tolerance: {Tolerance}; BCPId: *; Manufacturer: *; Name: *; Type: Резистор; Value: {Value}
footprint С2-33H-0.125 (HTD; body:6.0х2.2mm Резистор постоянный непроволочный)
pins: 1, 2

## Stabistor_P6KE15CA
designator VD?  (value not drawn)
Стабилитрон; ManufacturerPartNumber: P6KE15CA; BCPId: *; Name: *; Type: Стабилитрон; Manufacturer: *
footprint D2A
pins: 1 Anode (io), 2 Cathode (io)

## Switch_SWT-14-13.0
designator S?, comment SWT-14-13.0  (value not drawn)
Переключатель SWT-14-13.0; BCPId: *; Manufacturer: *; ManufacturerPartNumber: SWT-14-13.0; Type: Переключатель; TU/GOST: *
footprint SWT-14-13 (Компоненты коммутации,  кнопки тактовые DIP)
pins: 1 "Negative Main Supply", 2 "Negative Main Supply"

## TP
designator 1  (value not drawn)  (no BOM)
Test point
footprint TP1 (Test point 1x1.6)
footprint TP1extend (Test point и крепление провода МГТФ 0,35)
footprint TP0.3 (Test point 0.3x0.7)
footprint TP1.5 (Test point 1.5x3)
footprint TP2X3
footprint TP1.5X2.5
footprint Rus_Контакт ПШРИ.757465.001 -01 (THD; Body: L=2.5mm, B=0,6mm, H=8mm; Weight: 0.13g; д.н. ПШРИ.757465.001 -01, Контакт для ПП толщиной 1,5 мм, при объемном монтаже, см. ОСТ4 Г0.812.201)
footprint Rus_Контакт ПШРИ.757465.001 -02 (THD; Body: L=2.5mm, B=0,6mm, H=8,5mm; Weight: 0.14g; д.н. ПШРИ.757465.001 -01, Контакт для ПП толщиной 2 мм, при объемном монтаже, см. ОСТ4 Г0.812.201)
footprint TP0.8X1.5
pins: 1

## VCC
designator *  (value not drawn)  (graphical)
Порт ЕСКД. Для "наложения" на штатный Power Bar

## ВП2Б-1В
designator F?
Вставка плавкая; ManufacturerPartNumber: ВП2Б-1В; Voltage: {Voltage}; TU/GOST*: ОЮ0.481.005 ТУ-Р; Current: {Current}; BCPId: *; Manufacturer: *; Name: *; Type: Вставка плавкая
pins: 1, 2